# Altium integrated library ECS Crystal Oscillator.IntLib: 79 symbols
Pins are listed as number, name and electrical type; pins without a type are passive.

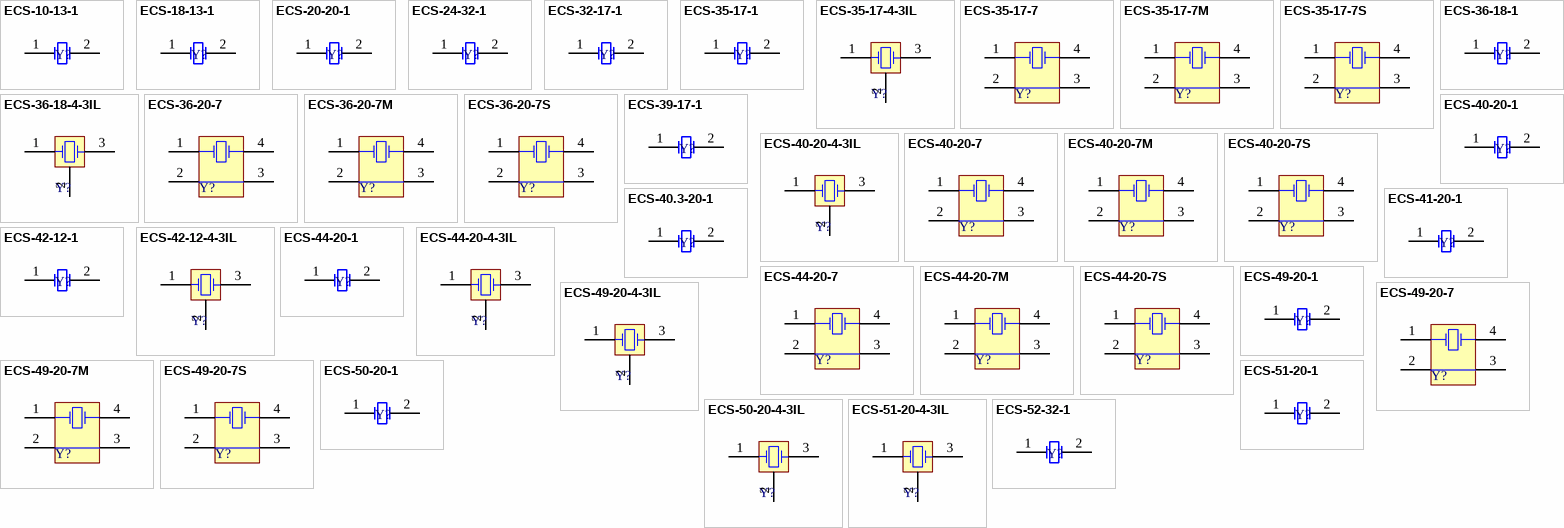
[diagram p0: symbols ECS-10-13-1 to ECS-52-32-1]

## ECS-10-13-1
designator Y?
Crystal Oscillator; Published: 17-Jul-2002; DatasheetDocument: 18-Apr-2000; PackageReference: HC-49U; Publisher: Altium Limited; ComponentLink1Description: Manufacturer Link; ComponentLink1URL: http://www.ecsxtal.com/; ComponentLink2Description: Datasheet; ComponentLink2URL: http://www.ecsxtal.com/pdf2/HC49U.PDF
footprint HC-49U (Quartz Crystal, Thru-Hole; 2 Leads; Body 11.35 x 4.65 x 13.46 mm (LxWxH max))
simulation model XTAL (SUBCKT)
pins: 1 OSC1, 2 OSC2

## ECS-18-13-1
designator Y?
Crystal Oscillator; Published: 17-Jul-2002; DatasheetDocument: 18-Apr-2000; PackageReference: HC-49U; Publisher: Altium Limited; ComponentLink1Description: Manufacturer Link; ComponentLink1URL: http://www.ecsxtal.com/; ComponentLink2Description: Datasheet; ComponentLink2URL: http://www.ecsxtal.com/pdf2/HC49U.PDF
footprint HC-49U (Quartz Crystal, Thru-Hole; 2 Leads; Body 11.35 x 4.65 x 13.46 mm (LxWxH max))
simulation model XTAL (SUBCKT)
pins: 1 OSC1, 2 OSC2

## ECS-20-20-1
designator Y?
Crystal Oscillator; Published: 17-Jul-2002; DatasheetDocument: 18-Apr-2000; PackageReference: HC-49U; Publisher: Altium Limited; ComponentLink1Description: Manufacturer Link; ComponentLink1URL: http://www.ecsxtal.com/; ComponentLink2Description: Datasheet; ComponentLink2URL: http://www.ecsxtal.com/pdf2/HC49U.PDF
footprint HC-49U (Quartz Crystal, Thru-Hole; 2 Leads; Body 11.35 x 4.65 x 13.46 mm (LxWxH max))
simulation model XTAL (SUBCKT)
pins: 1 OSC1, 2 OSC2

## ECS-24-32-1
designator Y?
Crystal Oscillator; Published: 17-Jul-2002; DatasheetDocument: 18-Apr-2000; PackageReference: HC-49U; Publisher: Altium Limited; ComponentLink1Description: Manufacturer Link; ComponentLink1URL: http://www.ecsxtal.com/; ComponentLink2Description: Datasheet; ComponentLink2URL: http://www.ecsxtal.com/pdf2/HC49U.PDF
footprint HC-49U (Quartz Crystal, Thru-Hole; 2 Leads; Body 11.35 x 4.65 x 13.46 mm (LxWxH max))
simulation model XTAL (SUBCKT)
pins: 1 OSC1, 2 OSC2

## ECS-32-17-1
designator Y?
Crystal Oscillator; Published: 17-Jul-2002; DatasheetDocument: 18-Apr-2000; PackageReference: HC-49U; Publisher: Altium Limited; ComponentLink1Description: Manufacturer Link; ComponentLink1URL: http://www.ecsxtal.com/; ComponentLink2Description: Datasheet; ComponentLink2URL: http://www.ecsxtal.com/pdf2/HC49U.PDF
footprint HC-49U (Quartz Crystal, Thru-Hole; 2 Leads; Body 11.35 x 4.65 x 13.46 mm (LxWxH max))
simulation model XTAL (SUBCKT)
pins: 1 OSC1, 2 OSC2

## ECS-35-17-1
designator Y?
Crystal Oscillator; Published: 17-Jul-2002; DatasheetDocument: 18-Apr-2000; PackageReference: HC-49U; Publisher: Altium Limited; ComponentLink1Description: Manufacturer Link; ComponentLink1URL: http://www.ecsxtal.com/; ComponentLink2Description: Datasheet; ComponentLink2URL: http://www.ecsxtal.com/pdf2/HC49U.PDF
footprint HC-49U (Quartz Crystal, Thru-Hole; 2 Leads; Body 11.35 x 4.65 x 13.46 mm (LxWxH max))
simulation model XTAL (SUBCKT)
pins: 1 OSC1, 2 OSC2

## ECS-35-17-4-3IL
designator Y?
Crystal Oscillator, 3rd In-Line Lead Version; Published: 17-Jul-2002; DatasheetDocument: 18-Apr-2000; PackageReference: HC-49US; Publisher: Altium Limited; ComponentLink1Description: Manufacturer Link; ComponentLink1URL: http://www.ecsxtal.com/; ComponentLink2Description: Datasheet; ComponentLink2URL: http://www.ecsxtal.com/pdf3/HC_49US.pdf
footprint HC-49US (Quartz Crystal, Thru-Hole; 3 Leads; Body 11.35 x 5 x 3.5 mm (LxWxH max))
simulation model XTAL (SUBCKT)
pins: 1 OSC1, 2 COM, 3 OSC2

## ECS-35-17-7
designator Y?
Crystal Oscillator; Published: 17-Jul-2002; DatasheetDocument: 18-Apr-2000; PackageReference: ECX-3A; Publisher: Altium Limited; ComponentLink1Description: Manufacturer Link; ComponentLink1URL: http://www.ecsxtal.com/
footprint ECX-3A (Quartz Crystal, SM; 4 Leads; Body 13 x 5 x 5 mm (LxWxH))
simulation model XTAL (SUBCKT)
pins: 1 OSC1, 2 COM, 3 COM, 4 OSC2

## ECS-35-17-7M
designator Y?
Crystal Oscillator; Published: 17-Jul-2002; DatasheetDocument: 18-Apr-2000; PackageReference: ECX-3M; Publisher: Altium Limited; ComponentLink1Description: Manufacturer Link; ComponentLink1URL: http://www.ecsxtal.com/
footprint ECX-3M (Quartz Crystal, SM; 4 Leads; Body 13 x 4.7 x 4.2 mm (LxWxH))
simulation model XTAL (SUBCKT)
pins: 1 OSC1, 2 COM, 3 COM, 4 OSC2

## ECS-35-17-7S
designator Y?
Crystal Oscillator; Published: 17-Jul-2002; DatasheetDocument: 18-Apr-2000; PackageReference: ECX-3S; Publisher: Altium Limited; ComponentLink1Description: Manufacturer Link; ComponentLink1URL: http://www.ecsxtal.com/; ComponentLink2Description: Datasheet; ComponentLink2URL: http://www.ecsxtal.com/pdf/ecx-3s.pdf
footprint ECX-3S (Quartz Crystal, SM; 4 Leads; Body 12.5 x 4.6 x 3.7 mm (LxWxH))
simulation model XTAL (SUBCKT)
pins: 1 OSC1, 2 COM, 3 COM, 4 OSC2

## ECS-36-18-1
designator Y?
Crystal Oscillator; Published: 17-Jul-2002; DatasheetDocument: 18-Apr-2000; PackageReference: HC-49U; Publisher: Altium Limited; ComponentLink1Description: Manufacturer Link; ComponentLink1URL: http://www.ecsxtal.com/; ComponentLink2Description: Datasheet; ComponentLink2URL: http://www.ecsxtal.com/pdf2/HC49U.PDF
footprint HC-49U (Quartz Crystal, Thru-Hole; 2 Leads; Body 11.35 x 4.65 x 13.46 mm (LxWxH max))
simulation model XTAL (SUBCKT)
pins: 1 OSC1, 2 OSC2

## ECS-36-18-4-3IL
designator Y?
Crystal Oscillator, 3rd In-Line Lead Version; Published: 17-Jul-2002; DatasheetDocument: 18-Apr-2000; PackageReference: HC-49US; Publisher: Altium Limited; ComponentLink1Description: Manufacturer Link; ComponentLink1URL: http://www.ecsxtal.com/; ComponentLink2Description: Datasheet; ComponentLink2URL: http://www.ecsxtal.com/pdf3/HC_49US.pdf
footprint HC-49US (Quartz Crystal, Thru-Hole; 3 Leads; Body 11.35 x 5 x 3.5 mm (LxWxH max))
simulation model XTAL (SUBCKT)
pins: 1 OSC1, 2 COM, 3 OSC2

## ECS-36-20-7
designator Y?
Crystal Oscillator; Published: 17-Jul-2002; DatasheetDocument: 18-Apr-2000; PackageReference: ECX-3A; Publisher: Altium Limited; ComponentLink1Description: Manufacturer Link; ComponentLink1URL: http://www.ecsxtal.com/
footprint ECX-3A (Quartz Crystal, SM; 4 Leads; Body 13 x 5 x 5 mm (LxWxH))
simulation model XTAL (SUBCKT)
pins: 1 OSC1, 2 COM, 3 COM, 4 OSC2

## ECS-36-20-7M
designator Y?
Crystal Oscillator; Published: 17-Jul-2002; DatasheetDocument: 18-Apr-2000; PackageReference: ECX-3M; Publisher: Altium Limited; ComponentLink1Description: Manufacturer Link; ComponentLink1URL: http://www.ecsxtal.com/
footprint ECX-3M (Quartz Crystal, SM; 4 Leads; Body 13 x 4.7 x 4.2 mm (LxWxH))
simulation model XTAL (SUBCKT)
pins: 1 OSC1, 2 COM, 3 COM, 4 OSC2

## ECS-36-20-7S
designator Y?
Crystal Oscillator; Published: 17-Jul-2002; DatasheetDocument: 18-Apr-2000; PackageReference: ECX-3S; Publisher: Altium Limited; ComponentLink1Description: Manufacturer Link; ComponentLink1URL: http://www.ecsxtal.com/; ComponentLink2Description: Datasheet; ComponentLink2URL: http://www.ecsxtal.com/pdf/ecx-3s.pdf
footprint ECX-3S (Quartz Crystal, SM; 4 Leads; Body 12.5 x 4.6 x 3.7 mm (LxWxH))
simulation model XTAL (SUBCKT)
pins: 1 OSC1, 2 COM, 3 COM, 4 OSC2

## ECS-39-17-1
designator Y?
Crystal Oscillator; Published: 17-Jul-2002; DatasheetDocument: 18-Apr-2000; PackageReference: HC-49U; Publisher: Altium Limited; ComponentLink1Description: Manufacturer Link; ComponentLink1URL: http://www.ecsxtal.com/; ComponentLink2Description: Datasheet; ComponentLink2URL: http://www.ecsxtal.com/pdf2/HC49U.PDF
footprint HC-49U (Quartz Crystal, Thru-Hole; 2 Leads; Body 11.35 x 4.65 x 13.46 mm (LxWxH max))
simulation model XTAL (SUBCKT)
pins: 1 OSC1, 2 OSC2

## ECS-40-20-1
designator Y?
Crystal Oscillator; Published: 17-Jul-2002; DatasheetDocument: 18-Apr-2000; PackageReference: HC-49U; Publisher: Altium Limited; ComponentLink1Description: Manufacturer Link; ComponentLink1URL: http://www.ecsxtal.com/; ComponentLink2Description: Datasheet; ComponentLink2URL: http://www.ecsxtal.com/pdf2/HC49U.PDF
footprint HC-49U (Quartz Crystal, Thru-Hole; 2 Leads; Body 11.35 x 4.65 x 13.46 mm (LxWxH max))
simulation model XTAL (SUBCKT)
pins: 1 OSC1, 2 OSC2

## ECS-40-20-4-3IL
designator Y?
Crystal Oscillator, 3rd In-Line Lead Version; Published: 17-Jul-2002; DatasheetDocument: 18-Apr-2000; PackageReference: HC-49US; Publisher: Altium Limited; ComponentLink1Description: Manufacturer Link; ComponentLink1URL: http://www.ecsxtal.com/; ComponentLink2Description: Datasheet; ComponentLink2URL: http://www.ecsxtal.com/pdf3/HC_49US.pdf
footprint HC-49US (Quartz Crystal, Thru-Hole; 3 Leads; Body 11.35 x 5 x 3.5 mm (LxWxH max))
simulation model XTAL (SUBCKT)
pins: 1 OSC1, 2 COM, 3 OSC2

## ECS-40-20-7
designator Y?
Crystal Oscillator; Published: 17-Jul-2002; DatasheetDocument: 18-Apr-2000; PackageReference: ECX-3A; Publisher: Altium Limited; ComponentLink1Description: Manufacturer Link; ComponentLink1URL: http://www.ecsxtal.com/
footprint ECX-3A (Quartz Crystal, SM; 4 Leads; Body 13 x 5 x 5 mm (LxWxH))
simulation model XTAL (SUBCKT)
pins: 1 OSC1, 2 COM, 3 COM, 4 OSC2

## ECS-40-20-7M
designator Y?
Crystal Oscillator; Published: 17-Jul-2002; DatasheetDocument: 18-Apr-2000; PackageReference: ECX-3M; Publisher: Altium Limited; ComponentLink1Description: Manufacturer Link; ComponentLink1URL: http://www.ecsxtal.com/
footprint ECX-3M (Quartz Crystal, SM; 4 Leads; Body 13 x 4.7 x 4.2 mm (LxWxH))
simulation model XTAL (SUBCKT)
pins: 1 OSC1, 2 COM, 3 COM, 4 OSC2

## ECS-40-20-7S
designator Y?
Crystal Oscillator; Published: 17-Jul-2002; DatasheetDocument: 18-Apr-2000; PackageReference: ECX-3S; Publisher: Altium Limited; ComponentLink1Description: Manufacturer Link; ComponentLink1URL: http://www.ecsxtal.com/; ComponentLink2Description: Datasheet; ComponentLink2URL: http://www.ecsxtal.com/pdf/ecx-3s.pdf
footprint ECX-3S (Quartz Crystal, SM; 4 Leads; Body 12.5 x 4.6 x 3.7 mm (LxWxH))
simulation model XTAL (SUBCKT)
pins: 1 OSC1, 2 COM, 3 COM, 4 OSC2

## ECS-40.3-20-1
designator Y?
Crystal Oscillator; Published: 17-Jul-2002; DatasheetDocument: 18-Apr-2000; PackageReference: HC-49U; Publisher: Altium Limited; ComponentLink1Description: Manufacturer Link; ComponentLink1URL: http://www.ecsxtal.com/; ComponentLink2Description: Datasheet; ComponentLink2URL: http://www.ecsxtal.com/pdf2/HC49U.PDF
footprint HC-49U (Quartz Crystal, Thru-Hole; 2 Leads; Body 11.35 x 4.65 x 13.46 mm (LxWxH max))
simulation model XTAL (SUBCKT)
pins: 1 OSC1, 2 OSC2

## ECS-41-20-1
designator Y?
Crystal Oscillator; Published: 17-Jul-2002; DatasheetDocument: 18-Apr-2000; PackageReference: HC-49U; Publisher: Altium Limited; ComponentLink1Description: Manufacturer Link; ComponentLink1URL: http://www.ecsxtal.com/; ComponentLink2Description: Datasheet; ComponentLink2URL: http://www.ecsxtal.com/pdf2/HC49U.PDF
footprint HC-49U (Quartz Crystal, Thru-Hole; 2 Leads; Body 11.35 x 4.65 x 13.46 mm (LxWxH max))
simulation model XTAL (SUBCKT)
pins: 1 OSC1, 2 OSC2

## ECS-42-12-1
designator Y?
Crystal Oscillator; Published: 17-Jul-2002; DatasheetDocument: 18-Apr-2000; PackageReference: HC-49U; Publisher: Altium Limited; ComponentLink1Description: Manufacturer Link; ComponentLink1URL: http://www.ecsxtal.com/; ComponentLink2Description: Datasheet; ComponentLink2URL: http://www.ecsxtal.com/pdf2/HC49U.PDF
footprint HC-49U (Quartz Crystal, Thru-Hole; 2 Leads; Body 11.35 x 4.65 x 13.46 mm (LxWxH max))
simulation model XTAL (SUBCKT)
pins: 1 OSC1, 2 OSC2

## ECS-42-12-4-3IL
designator Y?
Crystal Oscillator, 3rd In-Line Lead Version; Published: 17-Jul-2002; DatasheetDocument: 18-Apr-2000; PackageReference: HC-49US; Publisher: Altium Limited; ComponentLink1Description: Manufacturer Link; ComponentLink1URL: http://www.ecsxtal.com/; ComponentLink2Description: Datasheet; ComponentLink2URL: http://www.ecsxtal.com/pdf3/HC_49US.pdf
footprint HC-49US (Quartz Crystal, Thru-Hole; 3 Leads; Body 11.35 x 5 x 3.5 mm (LxWxH max))
simulation model XTAL (SUBCKT)
pins: 1 OSC1, 2 COM, 3 OSC2

## ECS-44-20-1
designator Y?
Crystal Oscillator; Published: 17-Jul-2002; DatasheetDocument: 18-Apr-2000; PackageReference: HC-49U; Publisher: Altium Limited; ComponentLink1Description: Manufacturer Link; ComponentLink1URL: http://www.ecsxtal.com/; ComponentLink2Description: Datasheet; ComponentLink2URL: http://www.ecsxtal.com/pdf2/HC49U.PDF
footprint HC-49U (Quartz Crystal, Thru-Hole; 2 Leads; Body 11.35 x 4.65 x 13.46 mm (LxWxH max))
simulation model XTAL (SUBCKT)
pins: 1 OSC1, 2 OSC2

## ECS-44-20-4-3IL
designator Y?
Crystal Oscillator, 3rd In-Line Lead Version; Published: 17-Jul-2002; DatasheetDocument: 18-Apr-2000; PackageReference: HC-49US; Publisher: Altium Limited; ComponentLink1Description: Manufacturer Link; ComponentLink1URL: http://www.ecsxtal.com/; ComponentLink2Description: Datasheet; ComponentLink2URL: http://www.ecsxtal.com/pdf3/HC_49US.pdf
footprint HC-49US (Quartz Crystal, Thru-Hole; 3 Leads; Body 11.35 x 5 x 3.5 mm (LxWxH max))
simulation model XTAL (SUBCKT)
pins: 1 OSC1, 2 COM, 3 OSC2

## ECS-44-20-7
designator Y?
Crystal Oscillator; Published: 17-Jul-2002; DatasheetDocument: 18-Apr-2000; PackageReference: ECX-3A; Publisher: Altium Limited; ComponentLink1Description: Manufacturer Link; ComponentLink1URL: http://www.ecsxtal.com/
footprint ECX-3A (Quartz Crystal, SM; 4 Leads; Body 13 x 5 x 5 mm (LxWxH))
simulation model XTAL (SUBCKT)
pins: 1 OSC1, 2 COM, 3 COM, 4 OSC2

## ECS-44-20-7M
designator Y?
Crystal Oscillator; Published: 17-Jul-2002; DatasheetDocument: 18-Apr-2000; PackageReference: ECX-3M; Publisher: Altium Limited; ComponentLink1Description: Manufacturer Link; ComponentLink1URL: http://www.ecsxtal.com/
footprint ECX-3M (Quartz Crystal, SM; 4 Leads; Body 13 x 4.7 x 4.2 mm (LxWxH))
simulation model XTAL (SUBCKT)
pins: 1 OSC1, 2 COM, 3 COM, 4 OSC2

## ECS-44-20-7S
designator Y?
Crystal Oscillator; Published: 17-Jul-2002; DatasheetDocument: 18-Apr-2000; PackageReference: ECX-3S; Publisher: Altium Limited; ComponentLink1Description: Manufacturer Link; ComponentLink1URL: http://www.ecsxtal.com/; ComponentLink2Description: Datasheet; ComponentLink2URL: http://www.ecsxtal.com/pdf/ecx-3s.pdf
footprint ECX-3S (Quartz Crystal, SM; 4 Leads; Body 12.5 x 4.6 x 3.7 mm (LxWxH))
simulation model XTAL (SUBCKT)
pins: 1 OSC1, 2 COM, 3 COM, 4 OSC2

## ECS-49-20-1
designator Y?
Crystal Oscillator; Published: 17-Jul-2002; DatasheetDocument: 18-Apr-2000; PackageReference: HC-49U; Publisher: Altium Limited; ComponentLink1Description: Manufacturer Link; ComponentLink1URL: http://www.ecsxtal.com/; ComponentLink2Description: Datasheet; ComponentLink2URL: http://www.ecsxtal.com/pdf2/HC49U.PDF
footprint HC-49U (Quartz Crystal, Thru-Hole; 2 Leads; Body 11.35 x 4.65 x 13.46 mm (LxWxH max))
simulation model XTAL (SUBCKT)
pins: 1 OSC1, 2 OSC2

## ECS-49-20-4-3IL
designator Y?
Crystal Oscillator, 3rd In-Line Lead Version; Published: 17-Jul-2002; DatasheetDocument: 18-Apr-2000; PackageReference: HC-49US; Publisher: Altium Limited; ComponentLink1Description: Manufacturer Link; ComponentLink1URL: http://www.ecsxtal.com/; ComponentLink2Description: Datasheet; ComponentLink2URL: http://www.ecsxtal.com/pdf3/HC_49US.pdf
footprint HC-49US (Quartz Crystal, Thru-Hole; 3 Leads; Body 11.35 x 5 x 3.5 mm (LxWxH max))
simulation model XTAL (SUBCKT)
pins: 1 OSC1, 2 COM, 3 OSC2

## ECS-49-20-7
designator Y?
Crystal Oscillator; Published: 17-Jul-2002; DatasheetDocument: 18-Apr-2000; PackageReference: ECX-3A; Publisher: Altium Limited; ComponentLink1Description: Manufacturer Link; ComponentLink1URL: http://www.ecsxtal.com/
footprint ECX-3A (Quartz Crystal, SM; 4 Leads; Body 13 x 5 x 5 mm (LxWxH))
simulation model XTAL (SUBCKT)
pins: 1 OSC1, 2 COM, 3 COM, 4 OSC2

## ECS-49-20-7M
designator Y?
Crystal Oscillator; Published: 17-Jul-2002; DatasheetDocument: 18-Apr-2000; PackageReference: ECX-3M; Publisher: Altium Limited; ComponentLink1Description: Manufacturer Link; ComponentLink1URL: http://www.ecsxtal.com/
footprint ECX-3M (Quartz Crystal, SM; 4 Leads; Body 13 x 4.7 x 4.2 mm (LxWxH))
simulation model XTAL (SUBCKT)
pins: 1 OSC1, 2 COM, 3 COM, 4 OSC2

## ECS-49-20-7S
designator Y?
Crystal Oscillator; Published: 17-Jul-2002; DatasheetDocument: 18-Apr-2000; PackageReference: ECX-3S; Publisher: Altium Limited; ComponentLink1Description: Manufacturer Link; ComponentLink1URL: http://www.ecsxtal.com/; ComponentLink2Description: Datasheet; ComponentLink2URL: http://www.ecsxtal.com/pdf/ecx-3s.pdf
footprint ECX-3S (Quartz Crystal, SM; 4 Leads; Body 12.5 x 4.6 x 3.7 mm (LxWxH))
simulation model XTAL (SUBCKT)
pins: 1 OSC1, 2 COM, 3 COM, 4 OSC2

## ECS-50-20-1
designator Y?
Crystal Oscillator; Published: 17-Jul-2002; DatasheetDocument: 18-Apr-2000; PackageReference: HC-49U; Publisher: Altium Limited; ComponentLink1Description: Manufacturer Link; ComponentLink1URL: http://www.ecsxtal.com/; ComponentLink2Description: Datasheet; ComponentLink2URL: http://www.ecsxtal.com/pdf2/HC49U.PDF
footprint HC-49U (Quartz Crystal, Thru-Hole; 2 Leads; Body 11.35 x 4.65 x 13.46 mm (LxWxH max))
simulation model XTAL (SUBCKT)
pins: 1 OSC1, 2 OSC2

## ECS-50-20-4-3IL
designator Y?
Crystal Oscillator, 3rd In-Line Lead Version; Published: 17-Jul-2002; DatasheetDocument: 18-Apr-2000; PackageReference: HC-49US; Publisher: Altium Limited; ComponentLink1Description: Manufacturer Link; ComponentLink1URL: http://www.ecsxtal.com/; ComponentLink2Description: Datasheet; ComponentLink2URL: http://www.ecsxtal.com/pdf3/HC_49US.pdf
footprint HC-49US (Quartz Crystal, Thru-Hole; 3 Leads; Body 11.35 x 5 x 3.5 mm (LxWxH max))
simulation model XTAL (SUBCKT)
pins: 1 OSC1, 2 COM, 3 OSC2

## ECS-51-20-1
designator Y?
Crystal Oscillator; Published: 17-Jul-2002; DatasheetDocument: 18-Apr-2000; PackageReference: HC-49U; Publisher: Altium Limited; ComponentLink1Description: Manufacturer Link; ComponentLink1URL: http://www.ecsxtal.com/; ComponentLink2Description: Datasheet; ComponentLink2URL: http://www.ecsxtal.com/pdf2/HC49U.PDF
footprint HC-49U (Quartz Crystal, Thru-Hole; 2 Leads; Body 11.35 x 4.65 x 13.46 mm (LxWxH max))
simulation model XTAL (SUBCKT)
pins: 1 OSC1, 2 OSC2

## ECS-51-20-4-3IL
designator Y?
Crystal Oscillator, 3rd In-Line Lead Version; Published: 17-Jul-2002; DatasheetDocument: 18-Apr-2000; PackageReference: HC-49US; Publisher: Altium Limited; ComponentLink1Description: Manufacturer Link; ComponentLink1URL: http://www.ecsxtal.com/; ComponentLink2Description: Datasheet; ComponentLink2URL: http://www.ecsxtal.com/pdf3/HC_49US.pdf
footprint HC-49US (Quartz Crystal, Thru-Hole; 3 Leads; Body 11.35 x 5 x 3.5 mm (LxWxH max))
simulation model XTAL (SUBCKT)
pins: 1 OSC1, 2 COM, 3 OSC2

## ECS-52-32-1
designator Y?
Crystal Oscillator; Published: 17-Jul-2002; DatasheetDocument: 18-Apr-2000; PackageReference: HC-49U; Publisher: Altium Limited; ComponentLink1Description: Manufacturer Link; ComponentLink1URL: http://www.ecsxtal.com/; ComponentLink2Description: Datasheet; ComponentLink2URL: http://www.ecsxtal.com/pdf2/HC49U.PDF
footprint HC-49U (Quartz Crystal, Thru-Hole; 2 Leads; Body 11.35 x 4.65 x 13.46 mm (LxWxH max))
simulation model XTAL (SUBCKT)
pins: 1 OSC1, 2 OSC2

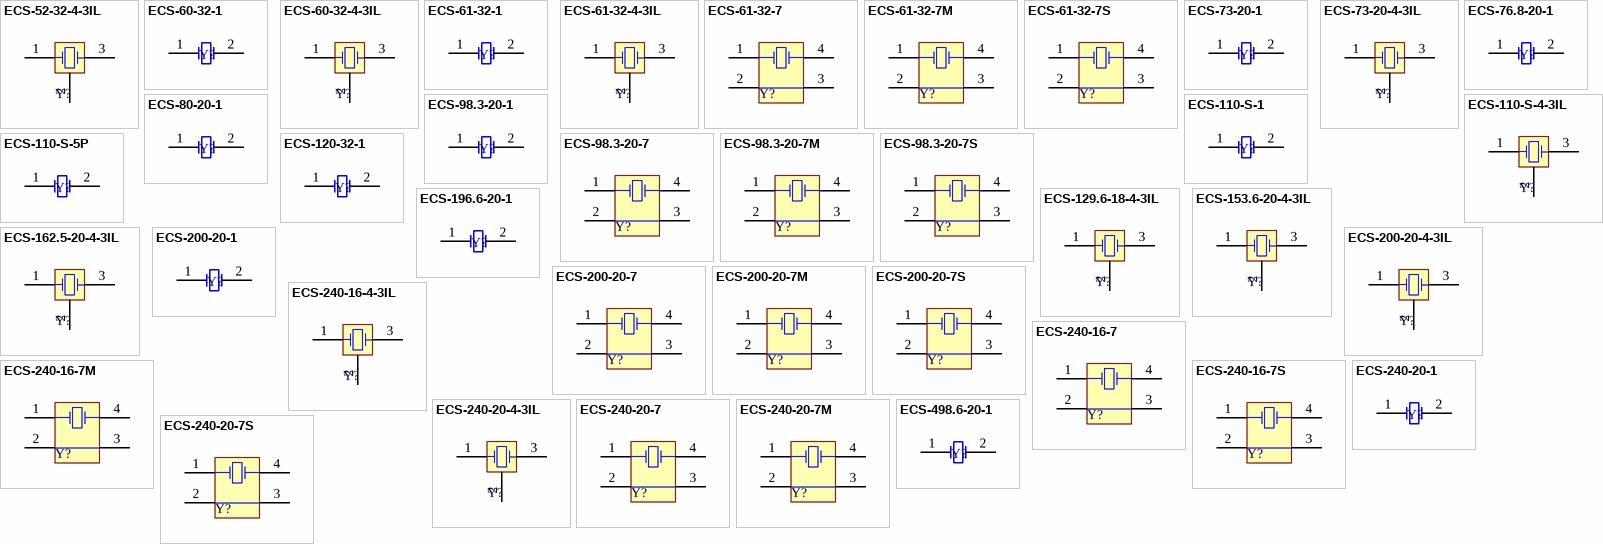
[diagram p1: symbols ECS-52-32-4-3IL to ECS-498.6-20-1]

## ECS-52-32-4-3IL
designator Y?
Crystal Oscillator, 3rd In-Line Lead Version; Published: 17-Jul-2002; DatasheetDocument: 18-Apr-2000; PackageReference: HC-49US; Publisher: Altium Limited; ComponentLink1Description: Manufacturer Link; ComponentLink1URL: http://www.ecsxtal.com/; ComponentLink2Description: Datasheet; ComponentLink2URL: http://www.ecsxtal.com/pdf3/HC_49US.pdf
footprint HC-49US (Quartz Crystal, Thru-Hole; 3 Leads; Body 11.35 x 5 x 3.5 mm (LxWxH max))
simulation model XTAL (SUBCKT)
pins: 1 OSC1, 2 COM, 3 OSC2

## ECS-60-32-1
designator Y?
Crystal Oscillator; Published: 17-Jul-2002; DatasheetDocument: 18-Apr-2000; PackageReference: HC-49U; Publisher: Altium Limited; ComponentLink1Description: Manufacturer Link; ComponentLink1URL: http://www.ecsxtal.com/; ComponentLink2Description: Datasheet; ComponentLink2URL: http://www.ecsxtal.com/pdf2/HC49U.PDF
footprint HC-49U (Quartz Crystal, Thru-Hole; 2 Leads; Body 11.35 x 4.65 x 13.46 mm (LxWxH max))
simulation model XTAL (SUBCKT)
pins: 1 OSC1, 2 OSC2

## ECS-60-32-4-3IL
designator Y?
Crystal Oscillator, 3rd In-Line Lead Version; Published: 17-Jul-2002; DatasheetDocument: 18-Apr-2000; PackageReference: HC-49US; Publisher: Altium Limited; ComponentLink1Description: Manufacturer Link; ComponentLink1URL: http://www.ecsxtal.com/; ComponentLink2Description: Datasheet; ComponentLink2URL: http://www.ecsxtal.com/pdf3/HC_49US.pdf
footprint HC-49US (Quartz Crystal, Thru-Hole; 3 Leads; Body 11.35 x 5 x 3.5 mm (LxWxH max))
simulation model XTAL (SUBCKT)
pins: 1 OSC1, 2 COM, 3 OSC2

## ECS-61-32-1
designator Y?
Crystal Oscillator; Published: 17-Jul-2002; DatasheetDocument: 18-Apr-2000; PackageReference: HC-49U; Publisher: Altium Limited; ComponentLink1Description: Manufacturer Link; ComponentLink1URL: http://www.ecsxtal.com/; ComponentLink2Description: Datasheet; ComponentLink2URL: http://www.ecsxtal.com/pdf2/HC49U.PDF
footprint HC-49U (Quartz Crystal, Thru-Hole; 2 Leads; Body 11.35 x 4.65 x 13.46 mm (LxWxH max))
simulation model XTAL (SUBCKT)
pins: 1 OSC1, 2 OSC2

## ECS-61-32-4-3IL
designator Y?
Crystal Oscillator, 3rd In-Line Lead Version; Published: 17-Jul-2002; DatasheetDocument: 18-Apr-2000; PackageReference: HC-49US; Publisher: Altium Limited; ComponentLink1Description: Manufacturer Link; ComponentLink1URL: http://www.ecsxtal.com/; ComponentLink2Description: Datasheet; ComponentLink2URL: http://www.ecsxtal.com/pdf3/HC_49US.pdf
footprint HC-49US (Quartz Crystal, Thru-Hole; 3 Leads; Body 11.35 x 5 x 3.5 mm (LxWxH max))
simulation model XTAL (SUBCKT)
pins: 1 OSC1, 2 COM, 3 OSC2

## ECS-61-32-7
designator Y?
Crystal Oscillator; Published: 17-Jul-2002; DatasheetDocument: 18-Apr-2000; PackageReference: ECX-3A; Publisher: Altium Limited; ComponentLink1Description: Manufacturer Link; ComponentLink1URL: http://www.ecsxtal.com/
footprint ECX-3A (Quartz Crystal, SM; 4 Leads; Body 13 x 5 x 5 mm (LxWxH))
simulation model XTAL (SUBCKT)
pins: 1 OSC1, 2 COM, 3 COM, 4 OSC2

## ECS-61-32-7M
designator Y?
Crystal Oscillator; Published: 17-Jul-2002; DatasheetDocument: 18-Apr-2000; PackageReference: ECX-3M; Publisher: Altium Limited; ComponentLink1Description: Manufacturer Link; ComponentLink1URL: http://www.ecsxtal.com/
footprint ECX-3M (Quartz Crystal, SM; 4 Leads; Body 13 x 4.7 x 4.2 mm (LxWxH))
simulation model XTAL (SUBCKT)
pins: 1 OSC1, 2 COM, 3 COM, 4 OSC2

## ECS-61-32-7S
designator Y?
Crystal Oscillator; Published: 17-Jul-2002; DatasheetDocument: 18-Apr-2000; PackageReference: ECX-3S; Publisher: Altium Limited; ComponentLink1Description: Manufacturer Link; ComponentLink1URL: http://www.ecsxtal.com/; ComponentLink2Description: Datasheet; ComponentLink2URL: http://www.ecsxtal.com/pdf/ecx-3s.pdf
footprint ECX-3S (Quartz Crystal, SM; 4 Leads; Body 12.5 x 4.6 x 3.7 mm (LxWxH))
simulation model XTAL (SUBCKT)
pins: 1 OSC1, 2 COM, 3 COM, 4 OSC2

## ECS-73-20-1
designator Y?
Crystal Oscillator; Published: 17-Jul-2002; DatasheetDocument: 18-Apr-2000; PackageReference: HC-49U; Publisher: Altium Limited; ComponentLink1Description: Manufacturer Link; ComponentLink1URL: http://www.ecsxtal.com/; ComponentLink2Description: Datasheet; ComponentLink2URL: http://www.ecsxtal.com/pdf2/HC49U.PDF
footprint HC-49U (Quartz Crystal, Thru-Hole; 2 Leads; Body 11.35 x 4.65 x 13.46 mm (LxWxH max))
simulation model XTAL (SUBCKT)
pins: 1 OSC1, 2 OSC2

## ECS-73-20-4-3IL
designator Y?
Crystal Oscillator, 3rd In-Line Lead Version; Published: 17-Jul-2002; DatasheetDocument: 18-Apr-2000; PackageReference: HC-49US; Publisher: Altium Limited; ComponentLink1Description: Manufacturer Link; ComponentLink1URL: http://www.ecsxtal.com/; ComponentLink2Description: Datasheet; ComponentLink2URL: http://www.ecsxtal.com/pdf3/HC_49US.pdf
footprint HC-49US (Quartz Crystal, Thru-Hole; 3 Leads; Body 11.35 x 5 x 3.5 mm (LxWxH max))
simulation model XTAL (SUBCKT)
pins: 1 OSC1, 2 COM, 3 OSC2

## ECS-76.8-20-1
designator Y?
Crystal Oscillator; Published: 17-Jul-2002; DatasheetDocument: 18-Apr-2000; PackageReference: HC-49U; Publisher: Altium Limited; ComponentLink1Description: Manufacturer Link; ComponentLink1URL: http://www.ecsxtal.com/; ComponentLink2Description: Datasheet; ComponentLink2URL: http://www.ecsxtal.com/pdf2/HC49U.PDF
footprint HC-49U (Quartz Crystal, Thru-Hole; 2 Leads; Body 11.35 x 4.65 x 13.46 mm (LxWxH max))
simulation model XTAL (SUBCKT)
pins: 1 OSC1, 2 OSC2

## ECS-80-20-1
designator Y?
Crystal Oscillator; Published: 17-Jul-2002; DatasheetDocument: 18-Apr-2000; PackageReference: HC-49U; Publisher: Altium Limited; ComponentLink1Description: Manufacturer Link; ComponentLink1URL: http://www.ecsxtal.com/; ComponentLink2Description: Datasheet; ComponentLink2URL: http://www.ecsxtal.com/pdf2/HC49U.PDF
footprint HC-49U (Quartz Crystal, Thru-Hole; 2 Leads; Body 11.35 x 4.65 x 13.46 mm (LxWxH max))
simulation model XTAL (SUBCKT)
pins: 1 OSC1, 2 OSC2

## ECS-98.3-20-1
designator Y?
Crystal Oscillator; Published: 17-Jul-2002; DatasheetDocument: 18-Apr-2000; PackageReference: HC-49U; Publisher: Altium Limited; ComponentLink1Description: Manufacturer Link; ComponentLink1URL: http://www.ecsxtal.com/; ComponentLink2Description: Datasheet; ComponentLink2URL: http://www.ecsxtal.com/pdf2/HC49U.PDF
footprint HC-49U (Quartz Crystal, Thru-Hole; 2 Leads; Body 11.35 x 4.65 x 13.46 mm (LxWxH max))
simulation model XTAL (SUBCKT)
pins: 1 OSC1, 2 OSC2

## ECS-98.3-20-7
designator Y?
Crystal Oscillator; Published: 17-Jul-2002; DatasheetDocument: 18-Apr-2000; PackageReference: ECX-3A; Publisher: Altium Limited; ComponentLink1Description: Manufacturer Link; ComponentLink1URL: http://www.ecsxtal.com/
footprint ECX-3A (Quartz Crystal, SM; 4 Leads; Body 13 x 5 x 5 mm (LxWxH))
simulation model XTAL (SUBCKT)
pins: 1 OSC1, 2 COM, 3 COM, 4 OSC2

## ECS-98.3-20-7M
designator Y?
Crystal Oscillator; Published: 17-Jul-2002; DatasheetDocument: 18-Apr-2000; PackageReference: ECX-3M; Publisher: Altium Limited; ComponentLink1Description: Manufacturer Link; ComponentLink1URL: http://www.ecsxtal.com/
footprint ECX-3M (Quartz Crystal, SM; 4 Leads; Body 13 x 4.7 x 4.2 mm (LxWxH))
simulation model XTAL (SUBCKT)
pins: 1 OSC1, 2 COM, 3 COM, 4 OSC2

## ECS-98.3-20-7S
designator Y?
Crystal Oscillator; Published: 17-Jul-2002; DatasheetDocument: 18-Apr-2000; PackageReference: ECX-3S; Publisher: Altium Limited; ComponentLink1Description: Manufacturer Link; ComponentLink1URL: http://www.ecsxtal.com/; ComponentLink2Description: Datasheet; ComponentLink2URL: http://www.ecsxtal.com/pdf/ecx-3s.pdf
footprint ECX-3S (Quartz Crystal, SM; 4 Leads; Body 12.5 x 4.6 x 3.7 mm (LxWxH))
simulation model XTAL (SUBCKT)
pins: 1 OSC1, 2 COM, 3 COM, 4 OSC2

## ECS-110-S-1
designator Y?
Crystal Oscillator; Published: 17-Jul-2002; DatasheetDocument: 18-Apr-2000; PackageReference: HC-49U; Publisher: Altium Limited; ComponentLink1Description: Manufacturer Link; ComponentLink1URL: http://www.ecsxtal.com/; ComponentLink2Description: Datasheet; ComponentLink2URL: http://www.ecsxtal.com/pdf2/HC49U.PDF
footprint HC-49U (Quartz Crystal, Thru-Hole; 2 Leads; Body 11.35 x 4.65 x 13.46 mm (LxWxH max))
simulation model XTAL (SUBCKT)
pins: 1 OSC1, 2 OSC2

## ECS-110-S-4-3IL
designator Y?
Crystal Oscillator, 3rd In-Line Lead Version; Published: 17-Jul-2002; DatasheetDocument: 18-Apr-2000; PackageReference: HC-49US; Publisher: Altium Limited; ComponentLink1Description: Manufacturer Link; ComponentLink1URL: http://www.ecsxtal.com/; ComponentLink2Description: Datasheet; ComponentLink2URL: http://www.ecsxtal.com/pdf3/HC_49US.pdf
footprint HC-49US (Quartz Crystal, Thru-Hole; 3 Leads; Body 11.35 x 5 x 3.5 mm (LxWxH max))
simulation model XTAL (SUBCKT)
pins: 1 OSC1, 2 COM, 3 OSC2

## ECS-110-S-5P
designator Y?
Crystal Oscillator; Published: 17-Jul-2002; DatasheetDocument: 18-Apr-2000; PackageReference: CSM-7; Publisher: Altium Limited; ComponentLink1Description: Manufacturer Link; ComponentLink1URL: http://www.ecsxtal.com/; ComponentLink2Description: Datasheet; ComponentLink2URL: http://www.ecsxtal.com/pdf3/CSM_7.pdf
footprint CSM-7 (Quartz Crystal, SM; 2 Leads; Body 11.4 x 4.8 x 5 mm (LxWxH))
simulation model XTAL (SUBCKT)
pins: 1 OSC1, 2 OSC2

## ECS-120-32-1
designator Y?
Crystal Oscillator; Published: 17-Jul-2002; DatasheetDocument: 18-Apr-2000; PackageReference: HC-49U; Publisher: Altium Limited; ComponentLink1Description: Manufacturer Link; ComponentLink1URL: http://www.ecsxtal.com/; ComponentLink2Description: Datasheet; ComponentLink2URL: http://www.ecsxtal.com/pdf2/HC49U.PDF
footprint HC-49U (Quartz Crystal, Thru-Hole; 2 Leads; Body 11.35 x 4.65 x 13.46 mm (LxWxH max))
simulation model XTAL (SUBCKT)
pins: 1 OSC1, 2 OSC2

## ECS-129.6-18-4-3IL
designator Y?
Crystal Oscillator, 3rd In-Line Lead Version; Published: 17-Jul-2002; DatasheetDocument: 18-Apr-2000; PackageReference: HC-49US; Publisher: Altium Limited; ComponentLink1Description: Manufacturer Link; ComponentLink1URL: http://www.ecsxtal.com/; ComponentLink2Description: Datasheet; ComponentLink2URL: http://www.ecsxtal.com/pdf3/HC_49US.pdf
footprint HC-49US (Quartz Crystal, Thru-Hole; 3 Leads; Body 11.35 x 5 x 3.5 mm (LxWxH max))
simulation model XTAL (SUBCKT)
pins: 1 OSC1, 2 COM, 3 OSC2

## ECS-153.6-20-4-3IL
designator Y?
Crystal Oscillator, 3rd In-Line Lead Version; Published: 17-Jul-2002; DatasheetDocument: 18-Apr-2000; PackageReference: HC-49US; Publisher: Altium Limited; ComponentLink1Description: Manufacturer Link; ComponentLink1URL: http://www.ecsxtal.com/; ComponentLink2Description: Datasheet; ComponentLink2URL: http://www.ecsxtal.com/pdf3/HC_49US.pdf
footprint HC-49US (Quartz Crystal, Thru-Hole; 3 Leads; Body 11.35 x 5 x 3.5 mm (LxWxH max))
simulation model XTAL (SUBCKT)
pins: 1 OSC1, 2 COM, 3 OSC2

## ECS-162.5-20-4-3IL
designator Y?
Crystal Oscillator, 3rd In-Line Lead Version; Published: 17-Jul-2002; DatasheetDocument: 18-Apr-2000; PackageReference: HC-49US; Publisher: Altium Limited; ComponentLink1Description: Manufacturer Link; ComponentLink1URL: http://www.ecsxtal.com/; ComponentLink2Description: Datasheet; ComponentLink2URL: http://www.ecsxtal.com/pdf3/HC_49US.pdf
footprint HC-49US (Quartz Crystal, Thru-Hole; 3 Leads; Body 11.35 x 5 x 3.5 mm (LxWxH max))
simulation model XTAL (SUBCKT)
pins: 1 OSC1, 2 COM, 3 OSC2

## ECS-196.6-20-1
designator Y?
Crystal Oscillator; Published: 17-Jul-2002; DatasheetDocument: 18-Apr-2000; PackageReference: HC-49U; Publisher: Altium Limited; ComponentLink1Description: Manufacturer Link; ComponentLink1URL: http://www.ecsxtal.com/; ComponentLink2Description: Datasheet; ComponentLink2URL: http://www.ecsxtal.com/pdf2/HC49U.PDF
footprint HC-49U (Quartz Crystal, Thru-Hole; 2 Leads; Body 11.35 x 4.65 x 13.46 mm (LxWxH max))
simulation model XTAL (SUBCKT)
pins: 1 OSC1, 2 OSC2

## ECS-200-20-1
designator Y?
Crystal Oscillator; Published: 17-Jul-2002; DatasheetDocument: 18-Apr-2000; PackageReference: HC-49U; Publisher: Altium Limited; ComponentLink1Description: Manufacturer Link; ComponentLink1URL: http://www.ecsxtal.com/; ComponentLink2Description: Datasheet; ComponentLink2URL: http://www.ecsxtal.com/pdf2/HC49U.PDF
footprint HC-49U (Quartz Crystal, Thru-Hole; 2 Leads; Body 11.35 x 4.65 x 13.46 mm (LxWxH max))
simulation model XTAL (SUBCKT)
pins: 1 OSC1, 2 OSC2

## ECS-200-20-4-3IL
designator Y?
Crystal Oscillator, 3rd In-Line Lead Version; Published: 17-Jul-2002; DatasheetDocument: 18-Apr-2000; PackageReference: HC-49US; Publisher: Altium Limited; ComponentLink1Description: Manufacturer Link; ComponentLink1URL: http://www.ecsxtal.com/; ComponentLink2Description: Datasheet; ComponentLink2URL: http://www.ecsxtal.com/pdf3/HC_49US.pdf
footprint HC-49US (Quartz Crystal, Thru-Hole; 3 Leads; Body 11.35 x 5 x 3.5 mm (LxWxH max))
simulation model XTAL (SUBCKT)
pins: 1 OSC1, 2 COM, 3 OSC2

## ECS-200-20-7
designator Y?
Crystal Oscillator; Published: 17-Jul-2002; DatasheetDocument: 18-Apr-2000; PackageReference: ECX-3A; Publisher: Altium Limited; ComponentLink1Description: Manufacturer Link; ComponentLink1URL: http://www.ecsxtal.com/
footprint ECX-3A (Quartz Crystal, SM; 4 Leads; Body 13 x 5 x 5 mm (LxWxH))
simulation model XTAL (SUBCKT)
pins: 1 OSC1, 2 COM, 3 COM, 4 OSC2

## ECS-200-20-7M
designator Y?
Crystal Oscillator; Published: 17-Jul-2002; DatasheetDocument: 18-Apr-2000; PackageReference: ECX-3M; Publisher: Altium Limited; ComponentLink1Description: Manufacturer Link; ComponentLink1URL: http://www.ecsxtal.com/
footprint ECX-3M (Quartz Crystal, SM; 4 Leads; Body 13 x 4.7 x 4.2 mm (LxWxH))
simulation model XTAL (SUBCKT)
pins: 1 OSC1, 2 COM, 3 COM, 4 OSC2

## ECS-200-20-7S
designator Y?
Crystal Oscillator; Published: 17-Jul-2002; DatasheetDocument: 18-Apr-2000; PackageReference: ECX-3S; Publisher: Altium Limited; ComponentLink1Description: Manufacturer Link; ComponentLink1URL: http://www.ecsxtal.com/; ComponentLink2Description: Datasheet; ComponentLink2URL: http://www.ecsxtal.com/pdf/ecx-3s.pdf
footprint ECX-3S (Quartz Crystal, SM; 4 Leads; Body 12.5 x 4.6 x 3.7 mm (LxWxH))
simulation model XTAL (SUBCKT)
pins: 1 OSC1, 2 COM, 3 COM, 4 OSC2

## ECS-240-16-4-3IL
designator Y?
Crystal Oscillator, 3rd In-Line Lead Version; Published: 17-Jul-2002; DatasheetDocument: 18-Apr-2000; PackageReference: HC-49US; Publisher: Altium Limited; ComponentLink1Description: Manufacturer Link; ComponentLink1URL: http://www.ecsxtal.com/; ComponentLink2Description: Datasheet; ComponentLink2URL: http://www.ecsxtal.com/pdf3/HC_49US.pdf
footprint HC-49US (Quartz Crystal, Thru-Hole; 3 Leads; Body 11.35 x 5 x 3.5 mm (LxWxH max))
simulation model XTAL (SUBCKT)
pins: 1 OSC1, 2 COM, 3 OSC2

## ECS-240-16-7
designator Y?
Crystal Oscillator; Published: 17-Jul-2002; DatasheetDocument: 18-Apr-2000; PackageReference: ECX-3A; Publisher: Altium Limited; ComponentLink1Description: Manufacturer Link; ComponentLink1URL: http://www.ecsxtal.com/
footprint ECX-3A (Quartz Crystal, SM; 4 Leads; Body 13 x 5 x 5 mm (LxWxH))
simulation model XTAL (SUBCKT)
pins: 1 OSC1, 2 COM, 3 COM, 4 OSC2

## ECS-240-16-7M
designator Y?
Crystal Oscillator; Published: 17-Jul-2002; DatasheetDocument: 18-Apr-2000; PackageReference: ECX-3M; Publisher: Altium Limited; ComponentLink1Description: Manufacturer Link; ComponentLink1URL: http://www.ecsxtal.com/
footprint ECX-3M (Quartz Crystal, SM; 4 Leads; Body 13 x 4.7 x 4.2 mm (LxWxH))
simulation model XTAL (SUBCKT)
pins: 1 OSC1, 2 COM, 3 COM, 4 OSC2

## ECS-240-16-7S
designator Y?
Crystal Oscillator; Published: 17-Jul-2002; DatasheetDocument: 18-Apr-2000; PackageReference: ECX-3S; Publisher: Altium Limited; ComponentLink1Description: Manufacturer Link; ComponentLink1URL: http://www.ecsxtal.com/
footprint ECX-3S (Quartz Crystal, SM; 4 Leads; Body 12.5 x 4.6 x 3.7 mm (LxWxH))
simulation model XTAL (SUBCKT)
pins: 1 OSC1, 2 COM, 3 COM, 4 OSC2

## ECS-240-20-1
designator Y?
Crystal Oscillator; Published: 17-Jul-2002; DatasheetDocument: 18-Apr-2000; PackageReference: HC-49U; Publisher: Altium Limited; ComponentLink1Description: Manufacturer Link; ComponentLink1URL: http://www.ecsxtal.com/; ComponentLink2Description: Datasheet; ComponentLink2URL: http://www.ecsxtal.com/pdf2/HC49U.PDF
footprint HC-49U (Quartz Crystal, Thru-Hole; 2 Leads; Body 11.35 x 4.65 x 13.46 mm (LxWxH max))
simulation model XTAL (SUBCKT)
pins: 1 OSC1, 2 OSC2

## ECS-240-20-4-3IL
designator Y?
Crystal Oscillator, 3rd In-Line Lead Version; Published: 17-Jul-2002; DatasheetDocument: 18-Apr-2000; PackageReference: HC-49US; Publisher: Altium Limited; ComponentLink1Description: Manufacturer Link; ComponentLink1URL: http://www.ecsxtal.com/; ComponentLink2Description: Datasheet; ComponentLink2URL: http://www.ecsxtal.com/pdf3/HC_49US.pdf
footprint HC-49US (Quartz Crystal, Thru-Hole; 3 Leads; Body 11.35 x 5 x 3.5 mm (LxWxH max))
simulation model XTAL (SUBCKT)
pins: 1 OSC1, 2 COM, 3 OSC2

## ECS-240-20-7
designator Y?
Crystal Oscillator; Published: 17-Jul-2002; DatasheetDocument: 18-Apr-2000; PackageReference: ECX-3A; Publisher: Altium Limited; ComponentLink1Description: Manufacturer Link; ComponentLink1URL: http://www.ecsxtal.com/
footprint ECX-3A (Quartz Crystal, SM; 4 Leads; Body 13 x 5 x 5 mm (LxWxH))
simulation model XTAL (SUBCKT)
pins: 1 OSC1, 2 COM, 3 COM, 4 OSC2

## ECS-240-20-7M
designator Y?
Crystal Oscillator; Published: 17-Jul-2002; DatasheetDocument: 18-Apr-2000; PackageReference: ECX-3M; Publisher: Altium Limited; ComponentLink1Description: Manufacturer Link; ComponentLink1URL: http://www.ecsxtal.com/
footprint ECX-3M (Quartz Crystal, SM; 4 Leads; Body 13 x 4.7 x 4.2 mm (LxWxH))
simulation model XTAL (SUBCKT)
pins: 1 OSC1, 2 COM, 3 COM, 4 OSC2

## ECS-240-20-7S
designator Y?
Crystal Oscillator; Published: 17-Jul-2002; DatasheetDocument: 18-Apr-2000; PackageReference: ECX-3S; Publisher: Altium Limited; ComponentLink1Description: Manufacturer Link; ComponentLink1URL: http://www.ecsxtal.com/; ComponentLink2Description: Datasheet; ComponentLink2URL: http://www.ecsxtal.com/pdf/ecx-3s.pdf
footprint ECX-3S (Quartz Crystal, SM; 4 Leads; Body 12.5 x 4.6 x 3.7 mm (LxWxH))
simulation model XTAL (SUBCKT)
pins: 1 OSC1, 2 COM, 3 COM, 4 OSC2

## ECS-498.6-20-1
designator Y?
Crystal Oscillator; Published: 17-Jul-2002; DatasheetDocument: 18-Apr-2000; PackageReference: HC-49U; Publisher: Altium Limited; ComponentLink1Description: Manufacturer Link; ComponentLink1URL: http://www.ecsxtal.com/; ComponentLink2Description: Datasheet; ComponentLink2URL: http://www.ecsxtal.com/pdf2/HC49U.PDF
footprint HC-49U (Quartz Crystal, Thru-Hole; 2 Leads; Body 11.35 x 4.65 x 13.46 mm (LxWxH max))
simulation model XTAL (SUBCKT)
pins: 1 OSC1, 2 OSC2